# Altium schematic symbol library PNP.Schlib: 1 symbol
Pins are listed as number, name and electrical type; pins without a type are passive.

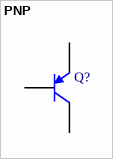
[diagram p0: symbol PNP]

## PNP
designator Q?
PNP Bipolar Transistor
pins: 1 C, 2 B, 3 E